# Altium schematic symbol library placeholders.SchLib: 2 symbols
Pins are listed as number, name and electrical type; pins without a type are passive.

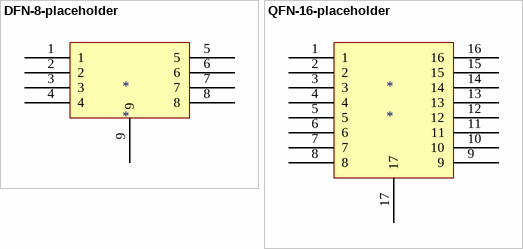
[diagram p0: symbols DFN-8-placeholder to QFN-16-placeholder]

## DFN-8-placeholder
designator *
footprint SON50P200X200X60-9N
pins: 1, 2, 3, 4, 5, 6, 7, 8, 9

## QFN-16-placeholder
designator *
footprint QFN50P300X300X100-17N
pins: 1, 2, 3, 4, 5, 6, 7, 8, 9, 10, 11, 12, 13, 14, 15, 16, 17